# Altium schematic symbol library EC_meter_v2.SchLib: 12 symbols
Pins are listed as number, name and electrical type; pins without a type are passive.

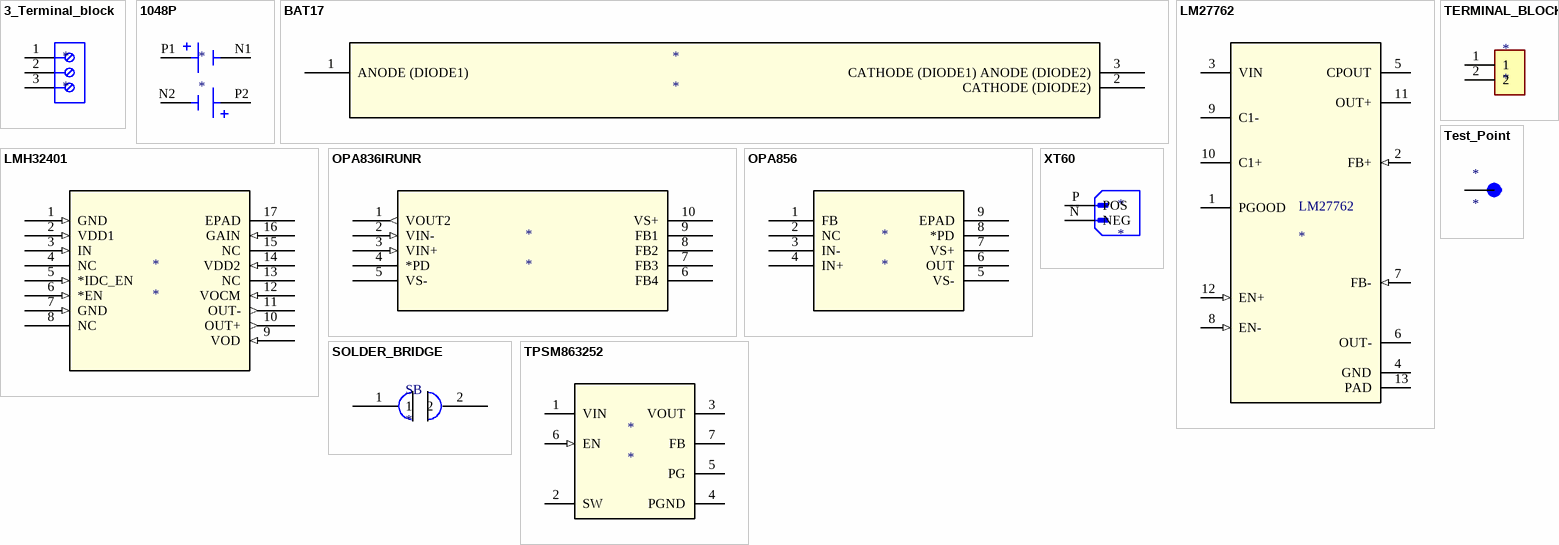
[diagram p0: symbols 3_Terminal_block to XT60]

## 3_Terminal_block
designator *
footprint PCBComponent_1 - duplicate1
pins: 1, 2, 3

## 1048P
designator *
footprint 1480P
pins: N1, N2, P1, P2

## BAT17
designator *
footprint BAT17
pins: 1 ANODE (DIODE1), 2 CATHODE (DIODE2), 3 CATHODE (DIODE1) ANODE (DIODE2)

## LM27762
designator LM27762
footprint LM27762
pins: 1 PGOOD (oc), 2 FB+ (in), 3 VIN (power), 4 GND (power), 5 CPOUT (power), 6 OUT- (power), 7 FB- (in), 8 EN- (in), 9 C1-, 10 C1+, 11 OUT+ (power), 12 EN+ (in), 13 PAD (power)

## LMH32401
designator *
footprint LMH32401
pins: 1 GND (in), 2 VDD1 (in), 3 IN (in), 4 NC, 5 *IDC_EN (in), 6 *EN (in), 7 GND (in), 8 NC, 9 VOD (in), 10 OUT+ (out), 11 OUT- (out), 12 VOCM (in), 13 NC, 14 VDD2 (in), 15 NC, 16 GAIN (in), 17 EPAD (power)

## OPA836IRUNR
designator *
footprint OPA836
pins: 1 VOUT2 (out), 2 VIN- (in), 3 VIN+ (in), 4 *PD, 5 VS- (power), 6 FB4, 7 FB3, 8 FB2, 9 FB1, 10 VS+ (power)

## OPA856
designator *
footprint OPA856
pins: 1 FB, 2 NC, 3 IN-, 4 IN+, 5 VS-, 6 OUT, 7 VS+, 8 *PD, 9 EPAD

## SOLDER_BRIDGE
designator SB
footprint SB
pins: 1, 2

## TERMINAL_BLOCKS
designator *
footprint PCBComponent_1 - duplicate
pins: 1, 2

## Test_Point
designator *
footprint Test_point
pins: 1 TP

## TPSM863252
designator *
footprint PCBComponent_1
pins: 1 VIN (power), 2 SW, 3 VOUT (power), 4 PGND (power), 5 PG (oc), 6 EN (in), 7 FB

## XT60
designator *
footprint XT60
pins: N NEG, P POS